# Altium footprint library MGTF.PcbLib: 3 footprints
Each footprint in its own frame and in the unit in brackets; x right, y up, seen from the top. Pads: shape width x height; smd on the part's side, far side on the other; paste and mask are expansions set on the pad; w line width, h text height; cw(c..) or ccw(c..) is an arc to the next point about the centre after c.
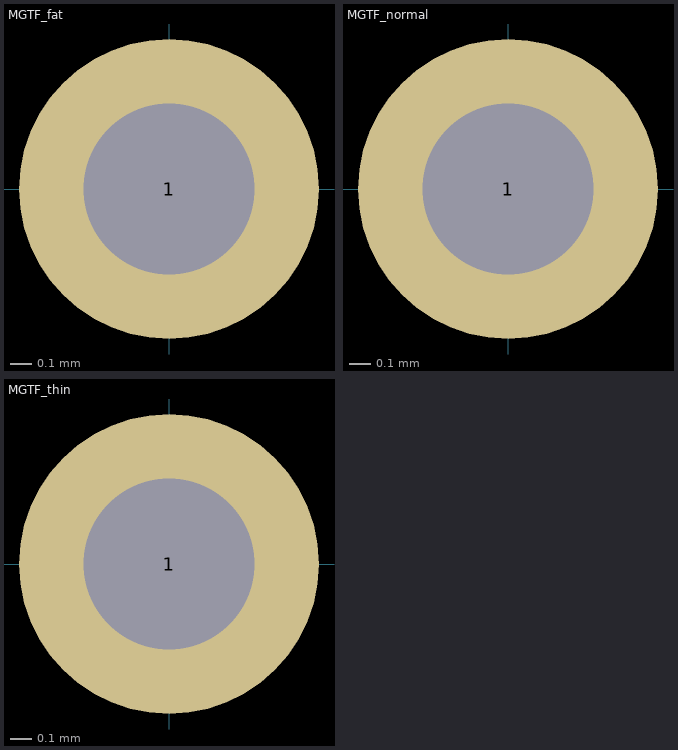
[diagram p0: the footprints below, top view; thin cyan lines are the x and y axes]

## MGTF_fat [mm]
pads (1):
  round 1.4 hole 0.8: 1(0,0)
3D body "Wire.x_t": height 1.5, standoff -13.2, extent -0.599,-0.6 0.599,0.595

## MGTF_normal [mm]
pads (1):
  round 1.4 hole 0.8: 1(0,0)
3D body "Wire2.x_t": height 1.5, standoff -11.2, extent -0.599,-0.6 0.599,0.595

## MGTF_thin [mm]
pads (1):
  round 1.4 hole 0.8: 1(0,0)
3D body "Wire3.x_t": height 1.7, standoff -11, extent -0.599,-0.6 0.599,0.595